# Altium footprint library transform.PcbLib: 53 footprints (part 3 of 4)
Each footprint in its own frame and in the unit in brackets; x right, y up, seen from the top. Pads: shape width x height; smd on the part's side, far side on the other; paste and mask are expansions set on the pad; w line width, h text height; cw(c..) or ccw(c..) is an arc to the next point about the centre after c.
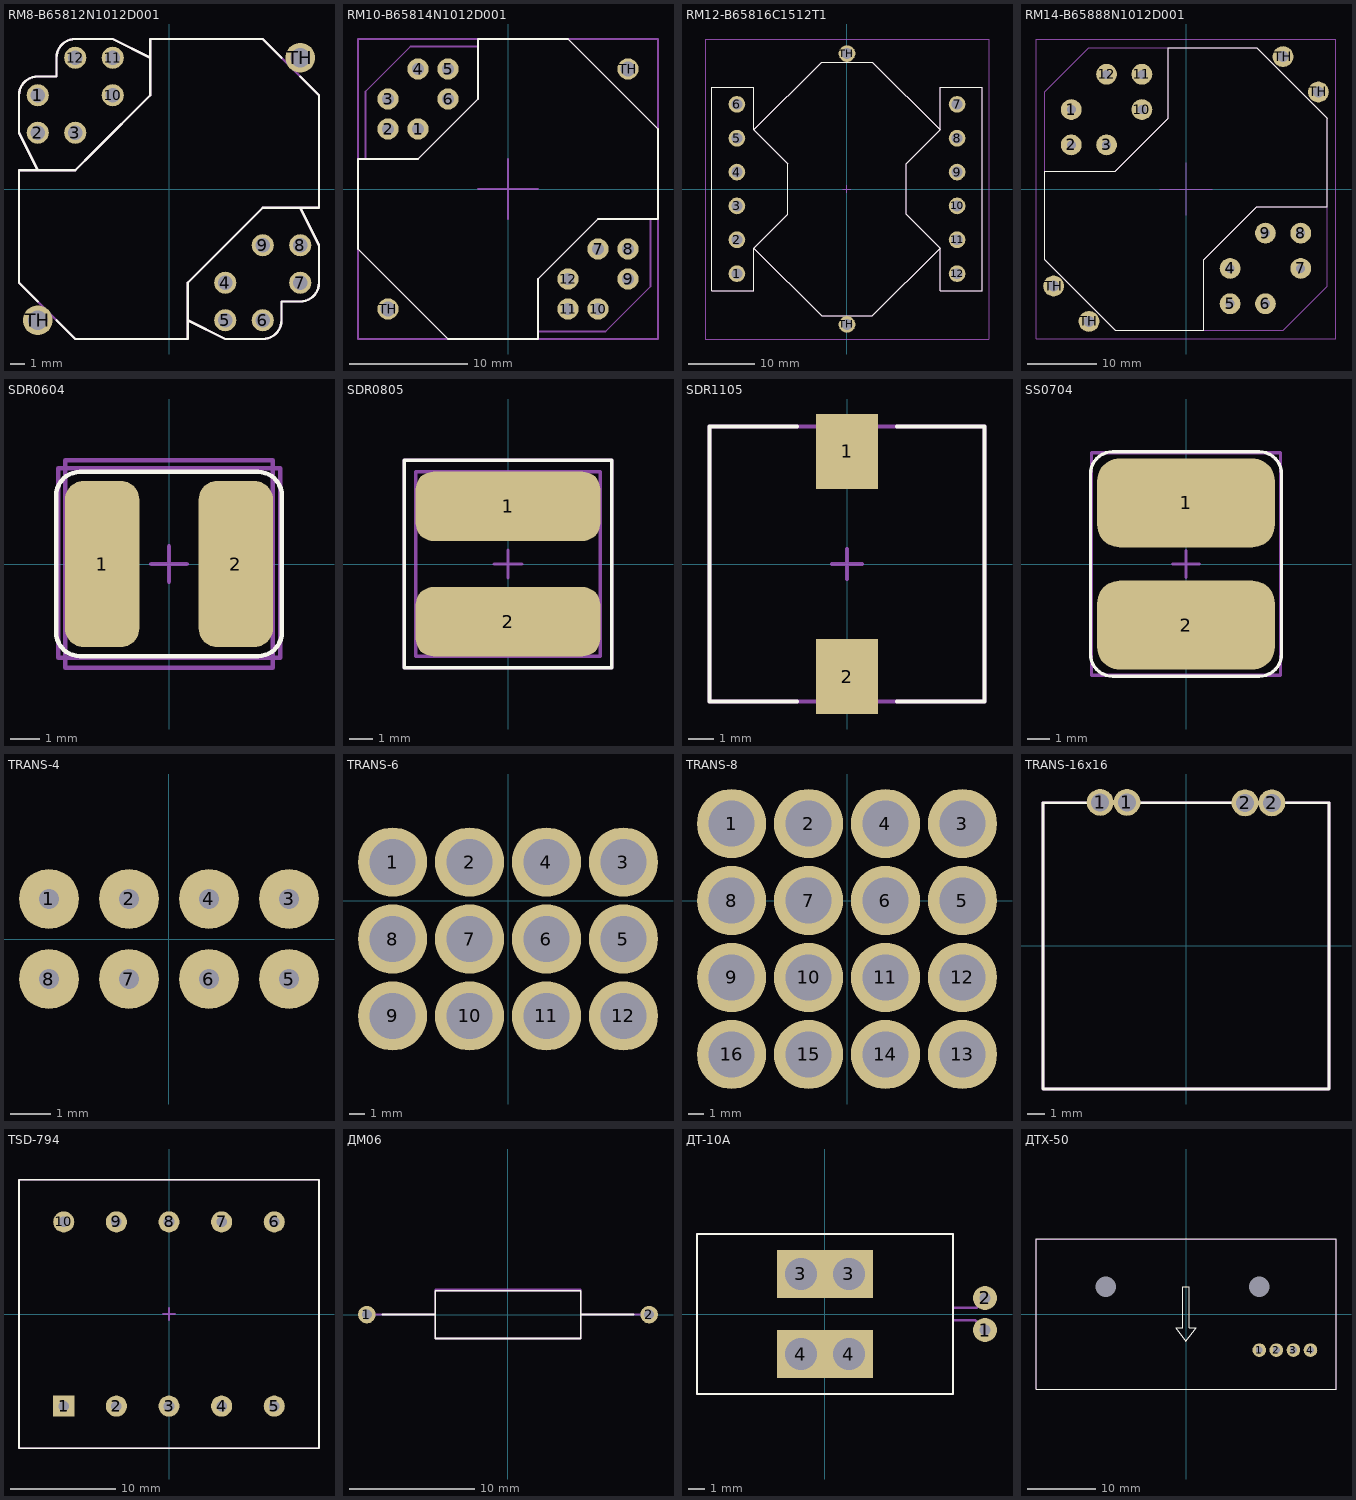
[diagram p2: the footprints below, top view; thin cyan lines are the x and y axes]

## RM8-B65812N1012D001 [mm]
height 17
pads (14):
  round 1.5 hole 1: 1(-8.89,6.35) 2(-8.89,3.81) 3(-6.35,3.81) 4(3.81,-6.35) 5(3.81,-8.89) 6(6.35,-8.89) 7(8.89,-6.35) 8(8.89,-3.81) 9(6.35,-3.81) 10(-3.81,6.35) 11(-3.81,8.89) 12(-6.35,8.89)
  round 2 hole 1.3: TH(-8.89,-8.89) TH(8.89,8.89)
Top Overlay:
  lines w0.15: -8.89,-7.62 -10.16,-6.35 -10.16,1.27 -6.35,1.27 -5.08,2.54 -1.27,6.35 -1.27,10.16 6.35,10.16 7.62,8.89 ; -8.89,1.27 -10.16,3.81 -10.16,6.35 cw(c-8.89,6.35) -8.89,7.62 -7.62,7.62 -7.62,8.89 cw(c-6.35,8.89) -6.35,10.16 -3.81,10.16 -1.27,8.89 ; -7.62,-8.89 -6.35,-10.16 1.27,-10.16 1.27,-6.35 6.35,-1.27 10.16,-1.27 10.16,5.08 10.16,6.35 8.89,7.62 ; 1.27,-8.89 3.81,-10.16 6.35,-10.16 ccw(c6.35,-8.89) 7.62,-8.89 7.62,-7.62 8.89,-7.62 ccw(c8.89,-6.35) 10.16,-6.35 10.16,-3.81 8.89,-1.27
Mechanical 29:
  lines w0.15: -8.89,1.27 -10.16,3.81 -10.16,6.35 cw(c-8.89,6.35) -8.89,7.62 -7.62,7.62 -7.62,8.89 cw(c-6.35,8.89) -6.35,10.16 -3.81,10.16 -1.27,8.89 ; 1.27,-8.89 3.81,-10.16 6.35,-10.16 ccw(c6.35,-8.89) 7.62,-8.89 7.62,-7.62 8.89,-7.62 ccw(c8.89,-6.35) 10.16,-6.35 10.16,-3.81 8.89,-1.27 ; -10.16,-6.35 -10.16,1.27 -6.35,1.27 -5.08,2.54 -1.27,6.35 -1.27,10.16 6.35,10.16 7.62,8.89 10.16,6.35 10.16,5.08 10.16,-1.27 6.35,-1.27 1.27,-6.35 1.27,-10.16 -6.35,-10.16 -7.62,-8.89 -10.16,-6.35
3D body "RM8.STEP": height 16.75, standoff -3.07, extent -10.51,-10.51 10.512,10.51

## RM10-B65814N1012D001 [mm]
pads (14):
  round 1.8 hole 1: 1(-7.62,5.08) 2(-10.16,5.08) 3(-10.16,7.62) 4(-7.62,10.16) 5(-5.08,10.16) 6(-5.08,7.62) 7(7.62,-5.08) 8(10.16,-5.08) 9(10.16,-7.62) 10(7.62,-10.16) 11(5.08,-10.16) 12(5.08,-7.62)
  round 1.8 hole 1.3: TH(-10.16,-10.16) TH(10.16,10.16)
Top Overlay:
  lines w0.15: -12.7,-5.08 -5.08,-12.7 2.54,-12.7 2.54,-7.62 7.62,-2.54 12.7,-2.54 12.7,5.08 5.08,12.7 -2.54,12.7 -2.54,7.62 -7.62,2.54 -12.7,2.54 -12.7,-5.08
Mechanical 15:
  lines w0.15: -2.54,0 2.54,0 ; 0,-2.54 0,2.54 ; -12.7,-12.7 -12.7,12.7 12.7,12.7 12.7,-12.7 -12.7,-12.7
Mechanical 29:
  lines w0.15: -12.065,2.54 -12.065,8.255 -8.255,12.065 -2.54,12.065 ; 2.54,-12.065 8.255,-12.065 12.065,-8.255 12.065,-2.54 ; -12.7,-5.08 -5.08,-12.7 2.54,-12.7 2.54,-7.62 7.62,-2.54 12.7,-2.54 12.7,5.08 5.08,12.7 -2.54,12.7 -2.54,7.62 -7.62,2.54 -12.7,2.54 -12.7,-5.08
3D body: height 2, standoff 1.5, extent -12.065,3.175 -5.08,9.079
3D body: height 4, standoff -3, extent 4.782,-7.919 5.38,-7.321
3D body: height 4, standoff -3, extent 4.782,-10.459 5.38,-9.861
3D body: height 4, standoff -3, extent 7.322,-10.459 7.92,-9.861
3D body: height 4, standoff -3, extent 9.862,-7.919 10.46,-7.321
3D body: height 4, standoff -3, extent 9.862,-5.379 10.46,-4.781
3D body: height 4, standoff -3, extent 7.322,-5.379 7.92,-4.781
3D body: height 4, standoff -3, extent -7.918,4.781 -7.32,5.379
3D body: height 4, standoff -3, extent -5.378,7.321 -4.78,7.919
3D body: height 4, standoff -3, extent -5.378,9.861 -4.78,10.459
3D body: height 4, standoff -3, extent -7.918,9.861 -7.32,10.459
3D body: height 4, standoff -3, extent -10.458,7.321 -9.86,7.919
3D body: height 4, standoff -3, extent -10.458,4.781 -9.86,5.379
3D body: height 19, standoff 0.5, extent -12.7,-12.7 12.7,12.7
3D body: height 2, standoff 1.5, extent 5.08,-9.08 12.065,-3.175
3D body: height 2, standoff 1.5, extent 3.175,-12.065 9.079,-5.08
3D body: height 2, standoff 1.5, extent -9.08,5.08 -3.175,12.065

## RM12-B65816C1512T1 [mm]
pads (14):
  round 2.5 hole 1.6: 1(-16.51,-12.7) 2(-16.51,-7.62) 3(-16.51,-2.54) 4(-16.51,2.54) 5(-16.51,7.62) 6(-16.51,12.7) 7(16.51,12.7) 8(16.51,7.62) 9(16.51,2.54) 10(16.51,-2.54) 11(16.51,-7.62) 12(16.51,-12.7) TH(0,-20.32) TH(0,20.32)
Top Overlay:
  lines w0.15: -13.97,-8.89 -3.81,-19.05 0,-19.05 3.81,-19.05 13.97,-8.89 ; -13.97,-8.89 -8.89,-3.81 -8.89,0 -8.89,3.81 -13.97,8.89 ; -13.97,-8.89 -13.97,-15.24 -16.51,-15.24 -20.32,-15.24 -20.32,0 -20.32,15.24 -16.51,15.24 -13.97,15.24 -13.97,8.89 ; -13.97,8.89 -3.81,19.05 0,19.05 3.81,19.05 13.97,8.89 ; 13.97,-8.89 8.89,-3.81 8.89,0 8.89,3.81 13.97,8.89 ; 13.97,-8.89 13.97,-12.7 13.97,-15.24 20.32,-15.24 20.32,0 20.32,15.24 16.51,15.24 13.97,15.24 13.97,8.89
Mechanical 15:
  lines w0.15: -0.6,0 0,0 ; 0,-0.6 0,0 ; 0,0.6 0,0 ; 0.6,0 0,0 ; -21.25,-22.5 -21.25,22.5 21.25,22.5 21.25,-22.5 -21.25,-22.5
Mechanical 29:
  lines w0.15: -13.97,-8.89 -3.81,-19.05 0,-19.05 3.81,-19.05 13.97,-8.89 ; -13.97,-8.89 -13.97,-15.24 -16.51,-15.24 -20.32,-15.24 -20.32,0 -20.32,15.24 -16.51,15.24 -13.97,15.24 -13.97,8.89 ; -13.97,-8.89 -8.89,-3.81 -8.89,0 -8.89,3.81 -13.97,8.89 ; -13.97,8.89 -3.81,19.05 0,19.05 3.81,19.05 13.97,8.89 ; 13.97,-8.89 8.89,-3.81 8.89,0 8.89,3.81 13.97,8.89 ; 13.97,-8.89 13.97,-12.7 13.97,-15.24 20.32,-15.24 20.32,0 20.32,15.24 16.51,15.24 13.97,15.24 13.97,8.89
3D body: height 0.2, standoff -4.8, extent -17.006,-13.199 -16.01,-12.201
3D body: height 0.2, standoff -4.8, extent -17.006,-8.119 -16.01,-7.121
3D body: height 0.2, standoff -4.8, extent -17.006,-3.039 -16.01,-2.041
3D body: height 0.2, standoff -4.8, extent -17.006,2.041 -16.01,3.039
3D body: height 0.2, standoff -4.8, extent -17.006,7.121 -16.01,8.119
3D body: height 0.2, standoff -4.8, extent -17.006,12.201 -16.01,13.199
3D body: height 0.2, standoff -4.8, extent 16.014,-13.199 17.01,-12.201
3D body: height 0.2, standoff -4.8, extent 16.014,-8.119 17.01,-7.121
3D body: height 0.2, standoff -4.8, extent 16.014,-3.039 17.01,-2.041
3D body: height 0.2, standoff -4.8, extent 16.014,2.041 17.01,3.039
3D body: height 0.2, standoff -4.8, extent 16.014,7.121 17.01,8.119
3D body: height 0.2, standoff -4.8, extent 16.014,12.201 17.01,13.199
3D body: height 25.5, standoff 0, extent -3.81,-20.32 3.81,-17.78
3D body: height 25.5, standoff 0, extent -3.81,17.78 3.81,20.32
3D body: height 5, standoff 0.5, extent -17.78,-15.24 17.78,15.24
3D body: height 25, standoff 0.5, extent -13.97,-19.05 13.97,19.05
3D body: height 22, standoff 3, extent -13,-12.996 13,12.997
3D body: height 2.5, standoff 1.5, extent -20.32,-13.199 -15.32,-12.201
3D body: height 2.5, standoff 1.5, extent -20.32,-8.119 -15.32,-7.121
3D body: height 2.5, standoff 1.5, extent -20.32,-3.039 -15.32,-2.041
3D body: height 2.5, standoff 1.5, extent -20.32,2.041 -15.32,3.039
3D body: height 2.5, standoff 1.5, extent -20.32,7.121 -15.32,8.119
3D body: height 2.5, standoff 1.5, extent -20.32,12.201 -15.32,13.199
3D body: height 2.5, standoff 1.5, extent 15.32,12.201 20.32,13.199
3D body: height 2.5, standoff 1.5, extent 15.32,7.121 20.32,8.119
3D body: height 2.5, standoff 1.5, extent 15.32,2.041 20.32,3.039
3D body: height 2.5, standoff 1.5, extent 15.32,-3.039 20.32,-2.041
3D body: height 2.5, standoff 1.5, extent 15.32,-8.119 20.32,-7.121
3D body: height 2.5, standoff 1.5, extent 15.32,-13.199 20.32,-12.201

## RM14-B65888N1012D001 [mm]
height 30
pads (16):
  round 3 hole 1.3: 1(-16.51,11.43) 2(-16.51,6.35) 3(-11.43,6.35) 4(6.35,-11.43) 5(6.35,-16.51) 6(11.43,-16.51) 7(16.51,-11.43) 8(16.51,-6.35) 9(11.43,-6.35) 10(-6.35,11.43) 11(-6.35,16.51) 12(-11.43,16.51)
  round 3 hole 1.6: TH(-19.05,-13.97) TH(-13.97,-19.05) TH(13.97,19.05) TH(19.05,13.97)
Top Overlay:
  lines w0.15: -20.32,-10.16 -20.32,2.54 -10.16,2.54 -2.54,10.16 -2.54,20.32 10.16,20.32 20.32,10.16 20.32,-2.54 10.16,-2.54 2.54,-10.16 2.54,-20.32 -10.16,-20.32 -20.32,-10.16
Mechanical 15:
  lines w0.15: -3.81,0 3.81,0 ; 0,-3.81 0,3.81 ; -21.59,-21.59 21.59,-21.59 21.59,21.59 -21.59,21.59 -21.59,-21.59
Mechanical 29:
  lines w0.15: -20.32,2.54 -20.32,13.97 -13.97,20.32 -2.54,20.32 ; -20.32,2.54 -20.32,-10.16 -10.16,-20.32 2.54,-20.32 ; -20.32,2.54 -10.16,2.54 -2.54,10.16 -2.54,20.32 ; -2.54,20.32 10.16,20.32 20.32,10.16 20.32,-2.54 ; 2.54,-20.32 13.97,-20.32 20.32,-13.97 20.32,-2.54 ; 2.54,-20.32 2.54,-10.16 10.16,-2.54 20.32,-2.54
3D body: height 25, standoff 5, extent -14,-13.996 14,13.996
3D body: height 30, standoff 0.5, extent -20.32,-20.32 20.32,20.32

## SDR0604 [mm]
pads (2):
  rrect50% 2.5x5.6 smd: 1(-2.25,0) 2(2.25,0)
Top Overlay:
  lines w0.15: -3.8,-2.3 ccw(c-3,-2.3) -3,-3.1 3,-3.1 ccw(c3,-2.3) 3.8,-2.3 3.8,2.3 ccw(c3,2.3) 3,3.1 -3,3.1 ccw(c-3,2.3) -3.8,2.3 -3.8,-2.3
Mechanical 15:
  lines w0.15: -0.6,0 0,0 ; 0,-0.6 0,0 ; 0,0.6 0,0 ; 0.6,0 0,0 ; -3.5,-3.5 -3.5,3.5 3.5,3.5 3.5,-3.5 -3.5,-3.5
Mechanical 29:
  lines w0.15: -3.725,-3.15 -3.725,3.225 3.75,3.225 3.75,-3.15 -3.725,-3.15
3D body "User Library-SDR0604.STEP": height 4.55, standoff 0, extent -2.729,-2.825 2.779,2.775

## SDR0805 [mm]
height 5.5
pads (2):
  rrect50% 8x3 smd: 1(0,2.5) 2(0,-2.5)
Top Overlay:
  lines w0.15: -4.5,-4.5 -4.5,4.5 4.5,4.5 4.5,-4.5 -4.5,-4.5
Mechanical 15:
  lines w0.15: -0.6,0 0,0 ; 0,-0.6 0,0 ; 0,0.6 0,0 ; 0.6,0 0,0 ; -4.5,-4.5 4.5,-4.5 4.5,4.5 -4.5,4.5 -4.5,-4.5
Mechanical 29:
  lines w0.15: -4,-4 -4,4 4,4 4,-4 -4,-4
3D body: height 5.8, standoff 0.5, extent -3.9,-3.899 3.9,3.899

## SDR1105 [mm]
pads (2):
  rect 2.5x3 smd: 1(0,4.5) 2(0,-4.5)
Top Overlay:
  lines w0.15: -2,-5.5 -5.5,-5.5 -5.5,5.5 -2,5.5 ; 2,-5.5 5.5,-5.5 5.5,5.5 2,5.5
Mechanical 15:
  lines w0.15: -0.6,0 0,0 ; 0,-0.6 0,0 ; 0,0.6 0,0 ; 0.6,0 0,0 ; -5.5,-5.5 -5.5,5.5 5.5,5.5 5.5,-5.5 -5.5,-5.5
Mechanical 29:
  lines w0.15: -5.5,-5.5 -5.5,5.5 5.5,5.5 5.5,-5.5 -5.5,-5.5
3D body: height 1.5, standoff 0.5, extent -5,-4.998 5,4.999
3D body: height 5.3, standoff 0.5, extent -5,-4.998 5,4.999

## SS0704 [mm]
pads (2):
  rrect50% 8x4 smd: 1(0,2.75) 2(0,-2.75)
Top Overlay:
  lines w0.15: -4.3,-4.05 ccw(c-3.3,-4.05) -3.3,-5.05 3.3,-5.05 ccw(c3.3,-4.05) 4.3,-4.05 4.3,4.05 ccw(c3.3,4.05) 3.3,5.05 -3.3,5.05 ccw(c-3.3,4.05) -4.3,4.05 -4.3,-4.05
Mechanical 15:
  lines w0.15: -0.6,0 0,0 ; 0,-0.6 0,0 ; 0,0.6 0,0 ; 0.6,0 0,0 ; -4.25,-5 -4.25,5 4.25,5 4.25,-5 -4.25,-5
3D body "SS0704.STEP": height 4, standoff 0, extent -3.775,-3.7 3.725,3.8

## TRANS-4 [mm]
pads (8):
  round 1.5 hole 0.5: 1(-3,1) 2(-1,1) 3(3,1) 4(1,1) 5(3,-1) 6(1,-1) 7(-1,-1) 8(-3,-1)

## TRANS-6 [mm]
pads (12):
  round 4.5 hole 3: 1(-7.5,2.5) 2(-2.5,2.5) 3(7.5,2.5) 4(2.5,2.5) 5(7.5,-2.5) 6(2.5,-2.5) 7(-2.5,-2.5) 8(-7.5,-2.5) 9(-7.5,-7.5) 10(-2.5,-7.5) 11(2.5,-7.5) 12(7.5,-7.5)

## TRANS-8 [mm]
pads (16):
  round 4.5 hole 3: 1(-7.5,5) 2(-2.5,5) 3(7.5,5) 4(2.5,5) 5(7.5,0) 6(2.5,0) 7(-2.5,0) 8(-7.5,0) 9(-7.5,-5) 10(-2.5,-5) 11(2.5,-5) 12(7.5,-5) 13(7.5,-10) 14(2.5,-10) 15(-2.5,-10) 16(-7.5,-10)

## TRANS-16x16 [mm]
pads (4):
  round 1.5 hole 1: 1(-4.8,8.025) 1(-3.3,8.025) 2(3.3,8) 2(4.8,8)
Top Overlay:
  lines w0.15: -8,-8 8,-8 8,8 -8,8 -8,-8
Mechanical 29:
  lines w0.15: -8,-8 8,-8 8,8 -8,8 -8,-8
3D body "трансфлюктор16х9х7.STEP": height 9.5, standoff 0.5, extent -8,-0.5 8,6.5
3D body "трансфлюктор16х9х7.STEP": height 9.5, standoff 0.5, extent -8,-7.6 8,-0.6
3D body: height 0.5, standoff 0, extent -5.999,-6.999 5.999,5.999

## TSD-794 [mm]
height 25
pads (10):
  rect 2x2 hole 1: 1(-10,-8.75)
  round 2 hole 1: 2(-5,-8.75) 3(0,-8.75) 4(5,-8.75) 5(10,-8.75) 6(10,8.75) 7(5,8.75) 8(0,8.75) 9(-5,8.75) 10(-10,8.75)
Top Overlay:
  lines w0.15: -14.25,-12.75 14.25,-12.75 14.25,12.75 -14.25,12.75 -14.25,-12.75
Mechanical 15:
  lines w0.15: -0.6,0 0,0 ; 0,-0.6 0,0 ; 0,0.6 0,0 ; 0.6,0 0,0 ; -14.25,-12.75 -14.25,12.75 14.25,12.75 14.25,-12.75 -14.25,-12.75
3D body "B66208W.step": height 26.2, standoff -3.25, extent -13.75,-8.652 13.75,8.652

## ДМ06 [mm]
height 5
pads (2):
  round 1.4 hole 0.8: 1(-11.25,0) 2(11.25,0)
Top Overlay:
  lines w0.15: -10,0 -5.8,0 ; 5.8,0 10,0 ; -5.8,-1.9 5.8,-1.9 5.8,1.9 -5.8,1.9 -5.8,-1.9
Mechanical 1:
  lines w0.15: -10,0 -5.8,0 ; 5.8,0 10,0 ; -5.8,-1.9 5.8,-1.9 5.8,1.9 -5.8,1.9 -5.8,-1.9
Mechanical 29:
  lines w0.15: -11.2,0 -5.8,0 -5.8,0.05 ; 5.8,0 11.3,0 ; -5.8,-1.9 5.8,-1.9 5.8,2 -5.8,2 -5.8,-1.9
3D body "ДМ0,6-10.STEP": height 6.9, standoff -3, extent -11.55,-1.9 11.55,1.9

## ДТ-10А [mm]
pads (6):
  round 1.5 hole 0.7: 1(10,-1) 2(10,1)
  rect 3x3 hole 2: 3(-1.5,2.5) 3(1.5,2.5) 4(-1.5,-2.5) 4(1.5,-2.5)
Top Overlay:
  lines w0.15: -8,-5 -8,5 8,5 8,-5 -8,-5
Mechanical 29:
  lines w0.15: 8,-0.4 9.4,-0.4 10,-1 ; 8,0.4 9.5,0.4 10.2,1.1 ; -8,-5 -8,5 8,5 8,-5 -8,-5
3D body: height 17, standoff 1, extent -7.998,-5 7.998,5

## ДТХ-50 [mm]
height 33
pads (6):
  round 2 hole 1: 1(10.75,-5.3) 2(13.25,-5.3) 3(15.75,-5.3) 4(18.25,-5.3)
  round 2 hole 3 unplated: HOLE(-11.75,4) HOLE(10.75,4)
Top Overlay:
  lines w0.15: -22,-11 -22,11 22,11 22,-11 -22,-11 ; -1.5,-2 -0.5,-2 -0.5,4 0.5,4 0.5,-2 1.5,-2 0,-4 -1.5,-2
Mechanical 29:
  lines w0.15: -22,-11 -22,11 22,11 22,-11 -22,-11
3D body: height 33, standoff 0.5, extent -22,-11 22,11